# Altium schematic symbol library Hole.SchLib: 1 symbol
Pins are listed as number, name and electrical type; pins without a type are passive.

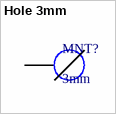
[diagram p0: symbol Hole 3mm]

## Hole 3mm
designator MNT?, comment 3mm
footprint 3mm Hole
pins: 1